# EAGLE library part 47571-0001 (library 47571-0001)
Memory Card Connectors ASSY FOR TFR HEADER HEADER W/DETECT PIN Source: Datasheet <https://componentsearchengine.com/Datasheets/2/47571-0001.pdf>
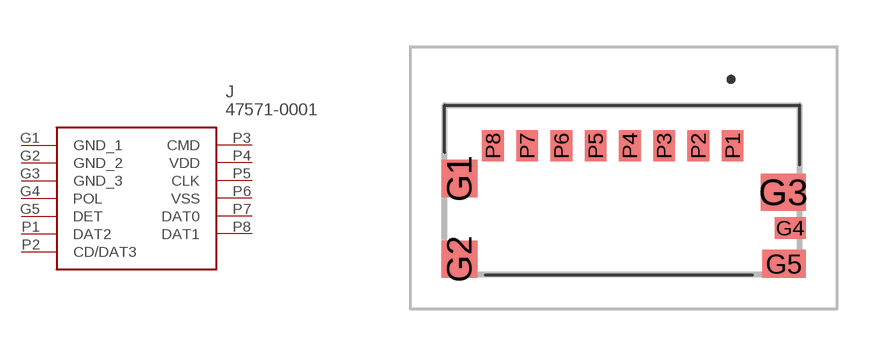
[diagram p0: symbol with the pads of 475710001; footprint 475710001]

Designator prefix J

## 47571-0001 (Description: Memory Card Connectors ASSY FOR TFR HEADER HEADER W/DETECT PIN; Height: 2.3mm; Manufacturer_Name: Molex; Manufacturer_Part_Number: 47571-0001; Mouser_Part_Number: 538-47571-0001; Mouser_Price-Stock: https://www.mouser.co.uk/ProductDetail/Molex/47571-0001?qs=qM7ngqbhX5UTJOg9nqKLJQ%3D%3D)  [475710001]
G1  GND_1
G2  GND_2
G3  GND_3
G4  POL
G5  DET
P1  DAT2
P2  CD/DAT3
P3  CMD
P4  VDD
P5  CLK
P6  VSS
P7  DAT0
P8  DAT1

## Footprint 475710001 (pad centres in mm)
47571-0001-3
smd 1.15 x 1.2: G1 -5.225,0.39; G2 -5.225,-2.2
smd 1.45 x 1.2: G3 5.175,-0.05
smd 1 x 0.7: G4 5.4,-1.2
smd 1.4 x 0.9: G5 5.2,-2.35
smd 0.7 x 1: P1 3.55,1.44; P2 2.45,1.44; P3 1.35,1.44; P4 0.25,1.44; P5 -0.85,1.44; P6 -1.95,1.44; P7 -3.05,1.44; P8 -4.15,1.44